# Altium schematic symbol library CONN-SMD-3P-254-V.SchLib: 1 symbol
Pins are listed as number, name and electrical type; pins without a type are passive.

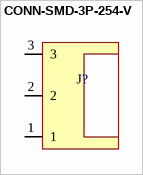
[diagram p0: symbol CONN-SMD-3P-254-V]

## CONN-SMD-3P-254-V
designator J?  (value not drawn)
MTA, CST-100 II, MT-6 and SL Connectors and Headers
pins: 1, 2, 3